# Altium footprint library current_sense.PcbLib: 8 footprints
Each footprint in its own frame and in the unit in brackets; x right, y up, seen from the top. Pads: shape width x height; smd on the part's side, far side on the other; paste and mask are expansions set on the pad; w line width, h text height; cw(c..) or ccw(c..) is an arc to the next point about the centre after c.
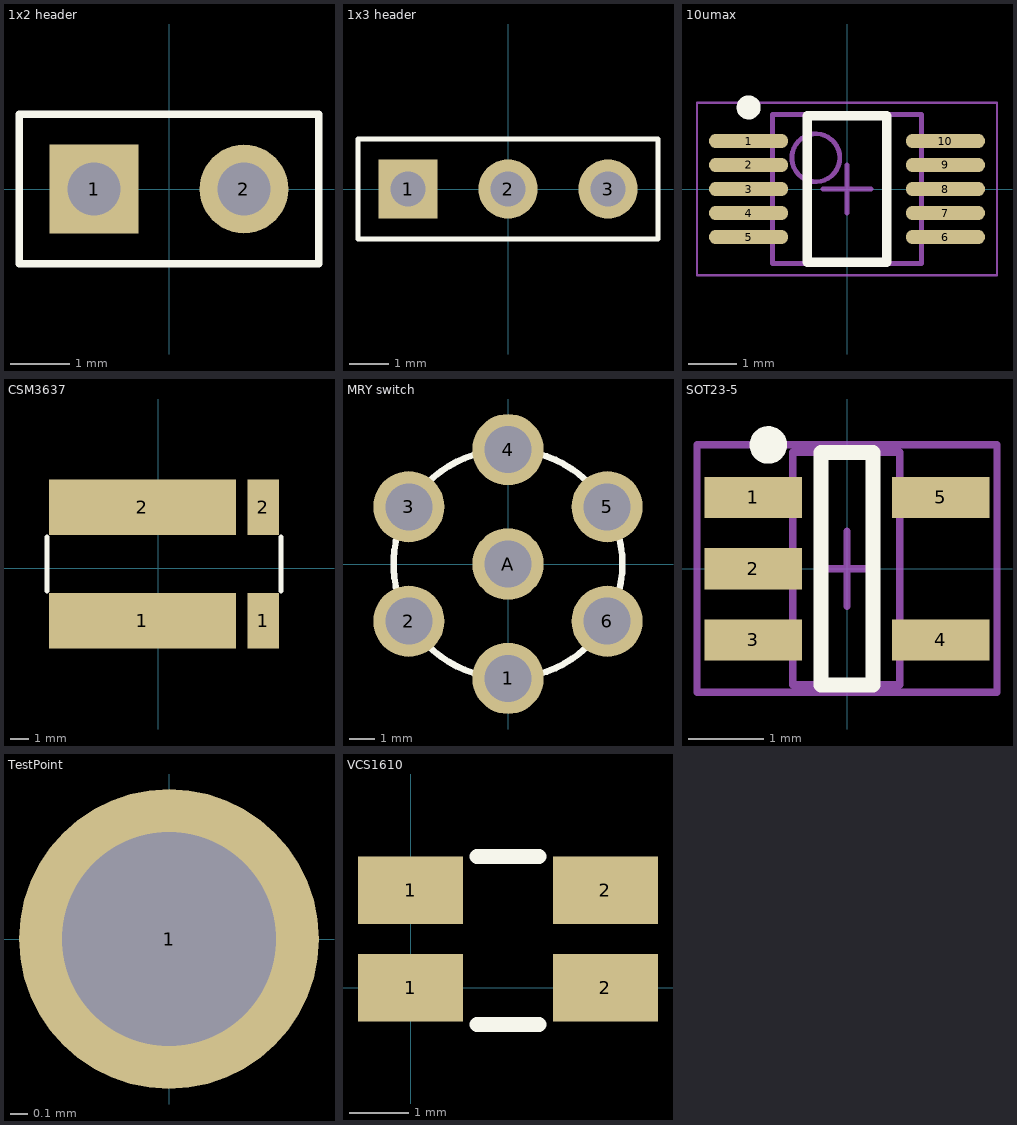
[diagram p0: the footprints below, top view; thin cyan lines are the x and y axes]

## 1x2 header [mm] "1x2 header, 100 mils"
pads (2):
  rect 1.5x1.5 hole 0.9: 1(-1.27,0)
  round 1.5 hole 0.9: 2(1.27,0)
Top Overlay:
  lines w0.127: -2.54,-1.27 2.54,-1.27 2.54,1.27 -2.54,1.27 -2.54,-1.27
3D body: height 8.38, standoff -1.52, extent 0.965,-0.305 1.575,0.305
3D body: height 8.38, standoff -1.52, extent -1.575,-0.305 -0.965,0.305
3D body: height 2.54, standoff 0, extent -2.53,-1.26 2.53,1.26

## 1x3 header [mm] "1x3 header, 100 mils"
pads (3):
  rect 1.5x1.5 hole 0.9: 1(-2.54,0)
  round 1.5 hole 0.9: 2(0,0) 3(2.54,0)
Top Overlay:
  lines w0.127: -3.81,-1.27 3.81,-1.27 3.81,1.27 -3.81,1.27 -3.81,-1.27
3D body: height 8.38, standoff -1.52, extent 2.235,-0.305 2.845,0.305
3D body: height 8.38, standoff -1.52, extent -0.305,-0.305 0.305,0.305
3D body: height 8.38, standoff -1.52, extent -2.845,-0.305 -2.235,0.305
3D body: height 2.54, standoff 0, extent -3.8,-1.25 3.8,1.25

## 10umax [mm] "TSSOP, 10-Leads, Body 3.00x3.00mm, Pitch 0.50mm, IPC Medium Density"
height 1.1
pads (10):
  oval 1.65x0.3 smd: 1(-2.05,1) 2(-2.05,0.5) 3(-2.05,0) 4(-2.05,-0.5) 5(-2.05,-1) 6(2.05,-1) 7(2.05,-0.5) 8(2.05,0) 9(2.05,0.5) 10(2.05,1)
Top Overlay:
  circle w0.25: c-2.05,1.7 r0.125
  lines w0.2: -0.825,-1.525 0.825,-1.525 0.825,1.525 -0.825,1.525 -0.825,-1.525
Mechanical 13:
  circle w0.1: c-0.65,0.65 r0.5
  lines w0.1: -1.55,-1.55 1.55,-1.55 1.55,1.55 -1.55,1.55 -1.55,-1.55
Mechanical 15:
  lines w0.05: -3.125,-1.8 3.125,-1.8 3.125,1.8 -3.125,1.8 -3.125,-1.8
  lines w0.1: -0.5,0 0.5,0 ; 0,-0.5 0,0.5
3D body: height 1.1, standoff 0.15, extent -1.55,-1.55 1.55,1.55

## CSM3637 [mm]
pads (4):
  rect 9.91x2.95 smd: 1(-0.85,-2.775) 2(-0.85,3.225)
  rect 1.68x2.95 smd: 1(5.555,-2.775) 2(5.555,3.225)
Top Overlay:
  lines w0.254: -5.9,-1.2 -5.9,1.65 ; 6.5,-1.2 6.5,1.65

## MRY switch [mm]
pads (7):
  round 2.8 hole 1.85: 1(0,-4.5) 2(-3.9,-2.25) 3(-3.9,2.25) 4(0,4.5) 5(3.9,2.25) 6(3.9,-2.25) A(0,0)
Top Overlay:
  circle w0.254: c0,0 r4.5

## SOT23-5 [mm] "SOT23, 5-Leads, Body 2.9x1.6mm, Pitch 0.95mm, Lead Span 2.8mm, IPC High Density"
height 1.45
pads (5):
  rect 1.3x0.55 smd: 1(-1.25,0.95) 2(-1.25,0) 3(-1.25,-0.95) 4(1.25,-0.95) 5(1.25,0.95)
Top Overlay:
  circle w0.25: c-1.05,1.65 r0.125
  lines w0.2: -0.35,-1.55 0.35,-1.55 0.35,1.55 -0.35,1.55 -0.35,-1.55
Mechanical 13:
  lines w0.1: -0.725,-1.55 -0.725,1.55 0.7,1.55 0.7,-1.55 -0.725,-1.55
Mechanical 15:
  lines w0.1: -0.375,0 0.35,0 ; 0,-0.5 0,0.5 ; -2,-1.65 -2,1.65 2,1.65 2,-1.65 -2,-1.65
3D body: height 1.45, standoff 0, extent -0.675,-1.5 0.65,1.5

## TestPoint [mm]
pads (1):
  round 1.68 hole 1.2: 1(0,0)
3D body: height 4.57, standoff 3.3, extent -0.628,-0.632 0.635,0.632
3D body: height 3.05, standoff 0, extent -1.26,-1.267 1.27,1.268

## VCS1610 [mil]
pads (4):
  rect 70x45 smd: 1(0,0) 1(0,65) 2(130,0) 2(130,65)
Top Overlay:
  lines w10: 44.29,-24.61 85.63,-24.61 ; 44.29,87.6 85.63,87.6